# EAGLE library part TT67278B-434M (library NewSDR)
Temwell Design RF Helical Band Pass Filter Fc = 434MHz
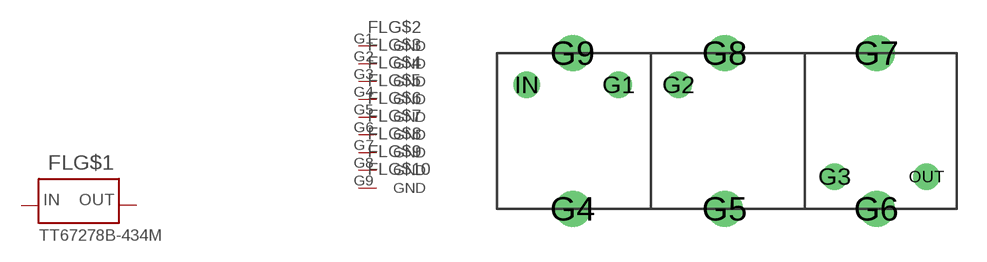
[diagram p106: symbol with the pads of 7H3B; footprint 7H3B]

Designator prefix FL; gates G$1=BOX_FILTER G$2=PIN_GND G$3=PIN_GND G$4=PIN_GND G$5=PIN_GND G$6=PIN_GND G$7=PIN_GND G$8=PIN_GND G$9=PIN_GND G$10=PIN_GND

## TT67278B-434M  [7H3B]
G1  G$2:GND  pwr
G2  G$3:GND  pwr
G3  G$4:GND  pwr
G4  G$5:GND  pwr
G5  G$6:GND  pwr
G6  G$7:GND  pwr
G7  G$8:GND  pwr
G8  G$9:GND  pwr
G9  G$10:GND  pwr
IN  G$1:IN  in
OUT  G$1:OUT  out

## Footprint 7H3B (pad centres in mm)
Temwell Design - RF Herical Band Pass Filter Package 7H3B
drill 0.8: G1 -5.3,2.3; G2 -2.3,2.3; G3 5.5,-2.3; IN -9.9,2.3; OUT 10.1,-2.3
drill 1.2: G4 -7.6,-3.9; G5 0,-3.9; G6 7.6,-3.9; G7 7.6,3.9; G8 0,3.9; G9 -7.6,3.9